# EAGLE library part DS442 (library Bits_library_eagle)
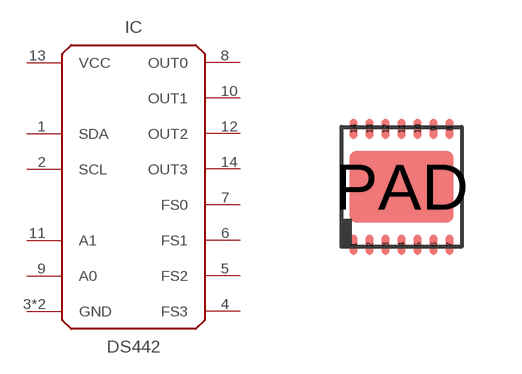
[diagram p65: symbol with the pads of TDFN-14_PAD; footprint TDFN-14_PAD]

Designator prefix IC

## DS442  [TDFN-14_PAD]
1  SDA
2  SCL
3  GND  pwr
4  FS3  pas
5  FS2  pas
6  FS1  pas
7  FS0  pas
8  OUT0
9  A0
10  OUT1
11  A1
12  OUT2
13  VCC  pwr
14  OUT3
PAD  GND  pwr

## Footprint TDFN-14_PAD (pad centres in mm)
smd 0.2 x 0.5: 1 -1.2,-1.45; 2 -0.8,-1.45; 3 -0.4,-1.45; 4 0,-1.45; 5 0.4,-1.45; 6 0.8,-1.45; 7 1.2,-1.45; 8 1.2,1.45; 9 0.8,1.45; 10 0.4,1.45; 11 0,1.45; 12 -0.4,1.45; 13 -0.8,1.45; 14 -1.2,1.45
smd 2.6 x 1.8: PAD 0,0